# Altium schematic symbol library SMD_LED_Series_SCH_Library_ARAF.SchLib: 1 symbol
Pins are listed as number, name and electrical type; pins without a type are passive.

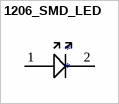
[diagram p0: symbol 1206_SMD_LED]

## 1206_SMD_LED
designator *
footprint 1206_SMD_LED
pins: 1 (power), 2 (power)